# EAGLE library part 62674-081121ALF (library thanics-connector)
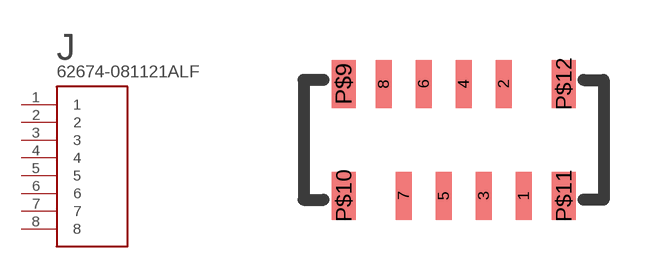
[diagram p5: symbol with the pads of 62674-081121ALF; footprint 62674-081121ALF]

Designator prefix J

## 62674-081121ALF  [62674-081121ALF]
1  1
2  2
3  3
4  4
5  5
6  6
7  7
8  8

## Footprint 62674-081121ALF (pad centres in mm)
smd 0.4 x 1.2: 1 2.5,-1.4; 2 2,1.4; 3 1.5,-1.4; 4 1,1.4; 5 0.5,-1.4; 6 0,1.4; 7 -0.5,-1.4; 8 -1,1.4
smd 0.6 x 1.2: P$9 -2,1.4; P$10 -2,-1.4; P$11 3.5,-1.4; P$12 3.5,1.4